# Altium schematic symbol library US6K4TR.SchLib: 1 symbol
Pins are listed as number, name and electrical type; pins without a type are passive.

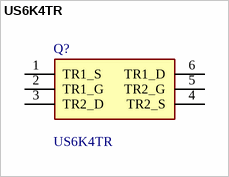
[diagram p0: symbol US6K4TR]

## US6K4TR
designator Q?
Mosfet Array 2 N-Channel (Dual) 20V 1.5A 1W Surface Mount TUMT6; Manufacturer_Name: ROHM Semiconductor; Geometry.Height: 0.85mm; Mouser Part Number: 755-US6K4TR; Mouser Price/Stock: https://www.mouser.co.uk/ProductDetail/ROHM-Semiconductor/US6K4TR?qs=IJ4m%2FCjbxWe5W6oP8dNQeg%3D%3D; Manufacturer_Part_Number: US6K4TR; Datasheet Link: https://fscdn.rohm.com/en/products/databook/datasheet/discrete/transistor/mosfet/us6k4.pdf
footprint US6K4TR
pins: 1 TR1_S, 2 TR1_G, 3 TR2_D, 4 TR2_S, 5 TR2_G, 6 TR1_D